# Altium schematic symbol library RA-02.SchLib: 1 symbol
Pins are listed as number, name and electrical type; pins without a type are passive.

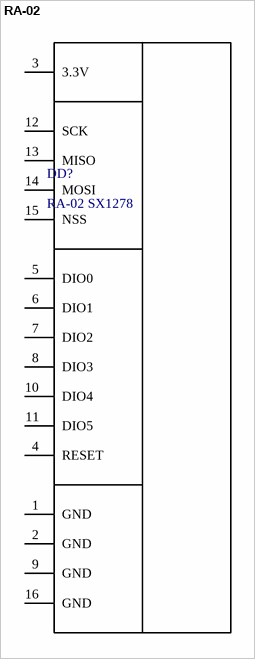
[diagram p0: symbol RA-02]

## RA-02
designator DD?, comment RA-02 SX1278
footprint RA-02
pins: 1 GND, 2 GND, 3 3.3V, 4 RESET, 5 DIO0, 6 DIO1, 7 DIO2, 8 DIO3, 9 GND, 10 DIO4, 11 DIO5, 12 SCK, 13 MISO, 14 MOSI, 15 NSS, 16 GND